# EAGLE library part ATTINY165A (library toyotune)
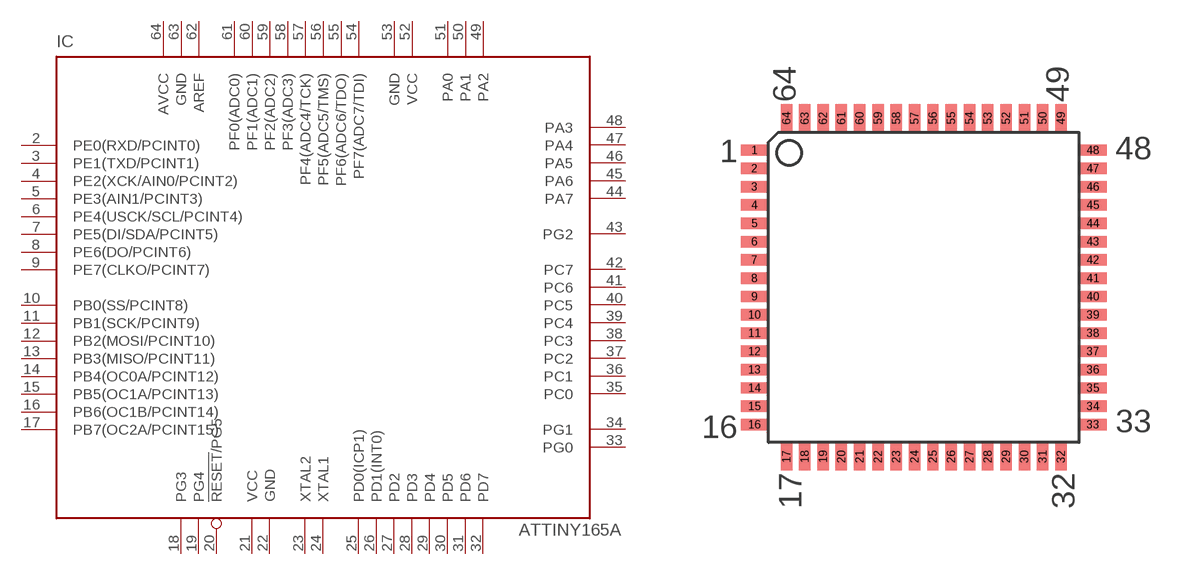
[diagram p45: symbol with the pads of TQFP64; footprint TQFP64]

Designator prefix IC

## ATTINY165AAU  [TQFP64]
2  PE0(RXD/PCINT0)
3  PE1(TXD/PCINT1)
4  PE2(XCK/AIN0/PCINT2)
5  PE3(AIN1/PCINT3)
6  PE4(USCK/SCL/PCINT4)
7  PE5(DI/SDA/PCINT5)
8  PE6(DO/PCINT6)
9  PE7(CLKO/PCINT7)
10  PB0(SS/PCINT8)
11  PB1(SCK/PCINT9)
12  PB2(MOSI/PCINT10)
13  PB3(MISO/PCINT11)
14  PB4(OC0A/PCINT12)
15  PB5(OC1A/PCINT13)
16  PB6(OC1B/PCINT14)
17  PB7(OC2A/PCINT15)
18  PG3
19  PG4
20  !RESET!/PG5  in
21  VCC
22  GND  pwr
23  XTAL2
24  XTAL1
25  PD0(ICP1)
26  PD1(INT0)
27  PD2
28  PD3
29  PD4
30  PD5
31  PD6
32  PD7
33  PG0
34  PG1
35  PC0
36  PC1
37  PC2
38  PC3
39  PC4
40  PC5
41  PC6
42  PC7
43  PG2
44  PA7
45  PA6
46  PA5
47  PA4
48  PA3
49  PA2
50  PA1
51  PA0
52  VCC
53  GND  pwr
54  PF7(ADC7/TDI)
55  PF6(ADC6/TDO)
56  PF5(ADC5/TMS)
57  PF4(ADC4/TCK)
58  PF3(ADC3)
59  PF2(ADC2)
60  PF1(ADC1)
61  PF0(ADC0)
62  AREF
63  GND  pwr
64  AVCC

## Footprint TQFP64 (pad centres in mm)
Thin Plasic Quad Flat Package Updated from atml.lbr 17.01.2005 alf@cadsoft.de
smd 1.2 x 0.5: 1 -7.4,6; 2 -7.4,5.2; 3 -7.4,4.4; 4 -7.4,3.6; 5 -7.4,2.8; 6 -7.4,2; 7 -7.4,1.2; 8 -7.4,0.4; 9 -7.4,-0.4; 10 -7.4,-1.2; 11 -7.4,-2; 12 -7.4,-2.8; 13 -7.4,-3.6; 14 -7.4,-4.4; 15 -7.4,-5.2; 16 -7.4,-6; 33 7.4,-6; 34 7.4,-5.2; 35 7.4,-4.4; 36 7.4,-3.6; 37 7.4,-2.8; 38 7.4,-2; 39 7.4,-1.2; 40 7.4,-0.4; 41 7.4,0.4; 42 7.4,1.2; 43 7.4,2; 44 7.4,2.8; 45 7.4,3.6; 46 7.4,4.4; 47 7.4,5.2; 48 7.4,6
smd 0.5 x 1.2: 17 -6,-7.4; 18 -5.2,-7.4; 19 -4.4,-7.4; 20 -3.6,-7.4; 21 -2.8,-7.4; 22 -2,-7.4; 23 -1.2,-7.4; 24 -0.4,-7.4; 25 0.4,-7.4; 26 1.2,-7.4; 27 2,-7.4; 28 2.8,-7.4; 29 3.6,-7.4; 30 4.4,-7.4; 31 5.2,-7.4; 32 6,-7.4; 49 6,7.4; 50 5.2,7.4; 51 4.4,7.4; 52 3.6,7.4; 53 2.8,7.4; 54 2,7.4; 55 1.2,7.4; 56 0.4,7.4; 57 -0.4,7.4; 58 -1.2,7.4; 59 -2,7.4; 60 -2.8,7.4; 61 -3.6,7.4; 62 -4.4,7.4; 63 -5.2,7.4; 64 -6,7.4